# Altium schematic symbol library IND 15UH 4.5A 34 MOHM.Schlib: 1 symbol
Pins are listed as number, name and electrical type; pins without a type are passive.

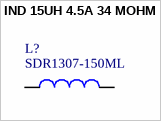
[diagram p0: symbol IND 15UH 4.5A 34 MOHM]

## IND 15UH 4.5A 34 MOHM
designator L?, comment SDR1307-150ML
15µH Unshielded Wirewound Inductor 4.5A 34mOhm Max Nonstandard; MF: Bourns Inc.; MP: SDR1307-150ML; Height - Seated (Max): 0.287"" (7.30mm); ComponentLink1Description: digikey; ComponentLink1URL: https://www.digikey.ca/en/products/detail/bourns-inc/SRU1048-8R2Y/2352912; Digikey: SDR1307-150MLCT-ND; Digikey Link: https://www.digikey.ca/en/products/detail/bourns-inc/SDR1307-150ML/2561929; Operating Temperature: -40°C ~ 125°C
footprint INDP130130X73M (Precision Wire Wound Inductor, 2-Leads, Body 13.00x13.00mm, IPC Low Density)
pins: 1, 2